# Altium schematic symbol library Regulator_Linear.SchLib: 1620 symbols (part 13 of 16)
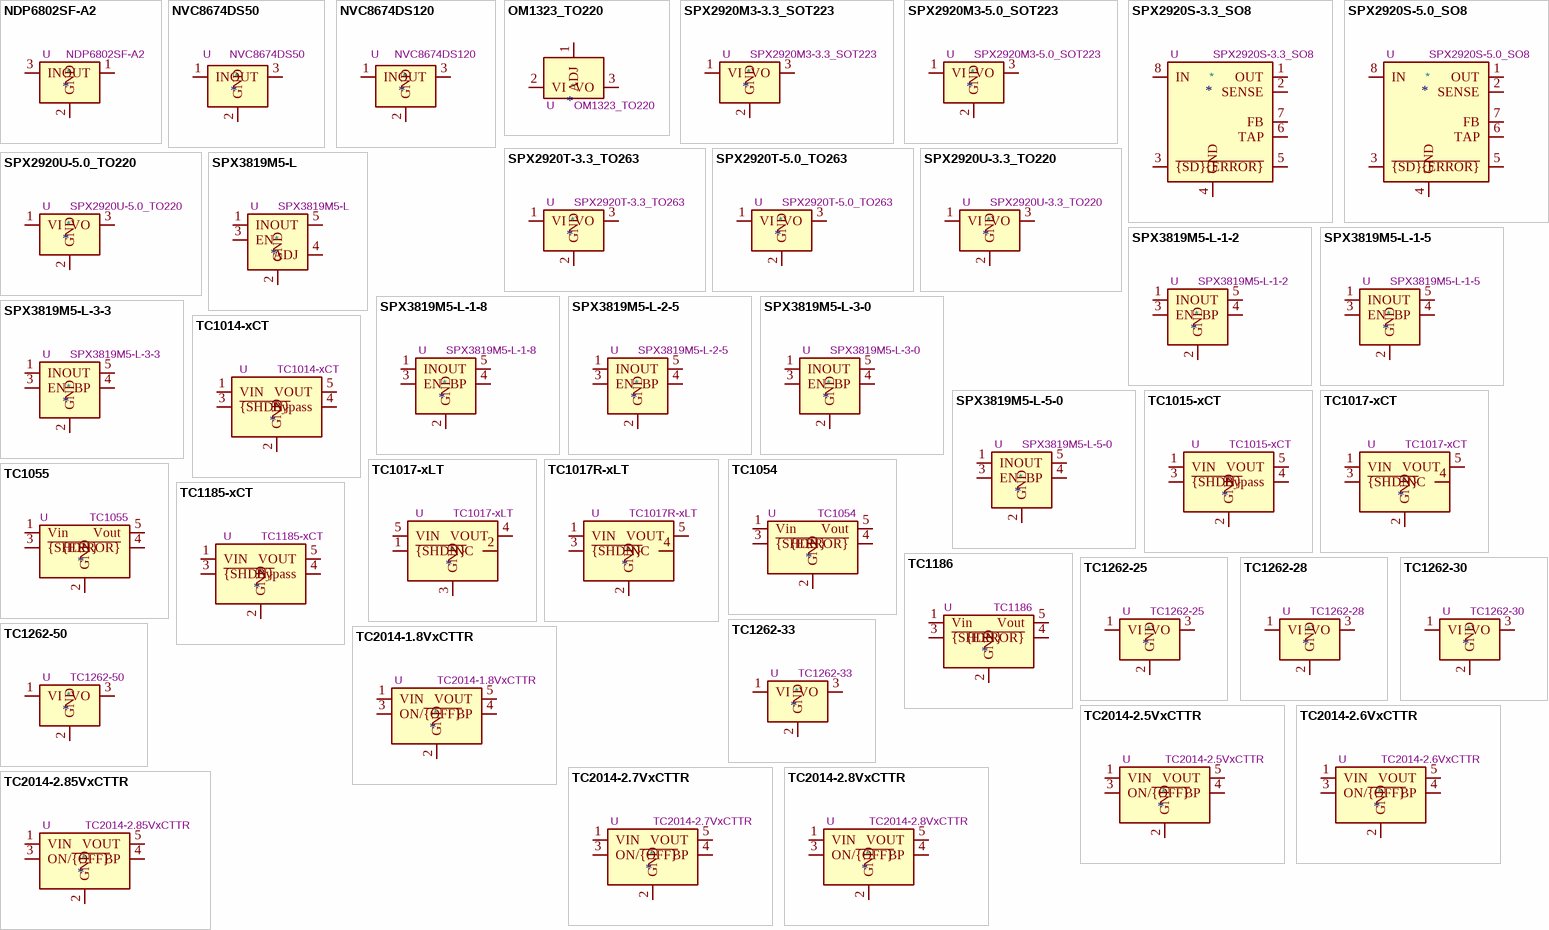
[diagram p52: symbols NDP6802SF-A2 to TC2014-2.85VxCTTR]

## TC1017-xLT
designator *  value TC1017-xLT  Reference: U
150mA, Tiny CMOS LDO With Shutdown, SC-70-5; ki_keywords: LDO Linear Voltage Regulator; ki_fp_filters: SOT*353*; Footprint: Package_TO_SOT_SMD:SOT-353_SC-70-5; Datasheet: http://ww1.microchip.com/downloads/en/DeviceDoc/21813F.pdf; Description_: 150mA, Tiny CMOS LDO With Shutdown, SC-70-5
pins: 1 ~{{SHDN}}, 2 NC, 3 GND, 4 VOUT, 5 VIN

## TC1017R-xLT
designator *  value TC1017R-xLT  Reference: U
150mA, Tiny CMOS LDO With Shutdown, SC-70-5; ki_keywords: LDO Linear Voltage Regulator; ki_fp_filters: SOT*353*; Footprint: Package_TO_SOT_SMD:SOT-353_SC-70-5; Datasheet: http://ww1.microchip.com/downloads/en/DeviceDoc/21813F.pdf; Description_: 150mA, Tiny CMOS LDO With Shutdown, SC-70-5
pins: 1 VIN, 2 GND, 3 ~{{SHDN}}, 4 NC, 5 VOUT

## TC1054
designator *  value TC1054  Reference: U
50mA Low Dropout Regulator with ERROR output in 5-Pin SOT-23 package; ki_keywords: LDO regulator voltage; ki_fp_filters: SOT?23*; Footprint: Package_TO_SOT_SMD:SOT-23-5; Datasheet: http://ww1.microchip.com/downloads/en/DeviceDoc/21350E.pdf; Description_: 50mA Low Dropout Regulator with ERROR output in 5-Pin SOT-23 package
pins: 1 Vin, 2 GND, 3 ~{{SHDN}}, 4 ~{{ERROR}}, 5 Vout

## TC1055
designator *  value TC1055  Reference: U
100mA Low Dropout Regulator with ERROR output in 5-Pin SOT-23 package; ki_keywords: LDO regulator voltage; ki_fp_filters: SOT?23*; Footprint: Package_TO_SOT_SMD:SOT-23-5; Datasheet: http://ww1.microchip.com/downloads/en/DeviceDoc/21350E.pdf; Description_: 100mA Low Dropout Regulator with ERROR output in 5-Pin SOT-23 package
pins: 1 Vin, 2 GND, 3 ~{{SHDN}}, 4 ~{{ERROR}}, 5 Vout

## TC1185-xCT
designator *  value TC1185-xCT  Reference: U
150 mA CMOS LDOs with Shutdown and Reference Bypass, SOT-23-5; ki_keywords: LDO Linear Voltage Regulator; ki_fp_filters: SOT?23*; Footprint: Package_TO_SOT_SMD:SOT-23-5; Datasheet: https://ww1.microchip.com/downloads/aemDocuments/documents/APID/ProductDocuments/DataSheets/21335e.pdf; Description_: 150 mA CMOS LDOs with Shutdown and Reference Bypass, SOT-23-5
pins: 1 VIN, 2 GND, 3 ~{{SHDN}}, 4 Bypass, 5 VOUT

## TC1186
designator *  value TC1186  Reference: U
150mA Low Dropout Regulator with ERROR output in 5-Pin SOT-23 package; ki_keywords: LDO regulator voltage; ki_fp_filters: SOT?23*; Footprint: Package_TO_SOT_SMD:SOT-23-5; Datasheet: http://ww1.microchip.com/downloads/en/DeviceDoc/21350E.pdf; Description_: 150mA Low Dropout Regulator with ERROR output in 5-Pin SOT-23 package
pins: 1 Vin, 2 GND, 3 ~{{SHDN}}, 4 ~{{ERROR}}, 5 Vout

## TC1262-25
designator *  value TC1262-25  Reference: U
500mA Low Dropout CMOS Voltage Regulator, Fixed Output 2.5V, TO-220/SOT-223/TO-263; ki_keywords: Voltage Regulator 2.5V 500mA Positive CMOS LDO Microchip; ki_fp_filters: SOT?223* TO?220* TO?263*; Datasheet: http://ww1.microchip.com/downloads/en/DeviceDoc/21373C.pdf; Description_: 500mA Low Dropout CMOS Voltage Regulator, Fixed Output 2.5V, TO-220/SOT-223/TO-263
pins: 1 VI, 2 GND, 3 VO

## TC1262-28
designator *  value TC1262-28  Reference: U
500mA Low Dropout CMOS Voltage Regulator, Fixed Output 2.8V, TO-220/SOT-223/TO-263; ki_keywords: Voltage Regulator 2.8V 500mA Positive CMOS LDO Microchip; ki_fp_filters: SOT?223* TO?220* TO?263*; Datasheet: http://ww1.microchip.com/downloads/en/DeviceDoc/21373C.pdf; Description_: 500mA Low Dropout CMOS Voltage Regulator, Fixed Output 2.8V, TO-220/SOT-223/TO-263
pins: 1 VI, 2 GND, 3 VO

## TC1262-30
designator *  value TC1262-30  Reference: U
500mA Low Dropout CMOS Voltage Regulator, Fixed Output 3.0V, TO-220/SOT-223/TO-263; ki_keywords: Voltage Regulator 3.0V 500mA Positive CMOS LDO Microchip; ki_fp_filters: SOT?223* TO?220* TO?263*; Datasheet: http://ww1.microchip.com/downloads/en/DeviceDoc/21373C.pdf; Description_: 500mA Low Dropout CMOS Voltage Regulator, Fixed Output 3.0V, TO-220/SOT-223/TO-263
pins: 1 VI, 2 GND, 3 VO

## TC1262-33
designator *  value TC1262-33  Reference: U
500mA Low Dropout CMOS Voltage Regulator, Fixed Output 3.3V, TO-220/SOT-223/TO-263; ki_keywords: Voltage Regulator 3.3V 500mA Positive CMOS LDO Microchip; ki_fp_filters: SOT?223* TO?220* TO?263*; Datasheet: http://ww1.microchip.com/downloads/en/DeviceDoc/21373C.pdf; Description_: 500mA Low Dropout CMOS Voltage Regulator, Fixed Output 3.3V, TO-220/SOT-223/TO-263
pins: 1 VI, 2 GND, 3 VO

## TC1262-50
designator *  value TC1262-50  Reference: U
500mA Low Dropout CMOS Voltage Regulator, Fixed Output 5.0V, TO-220/SOT-223/TO-263; ki_keywords: Voltage Regulator 5.0V 500mA Positive CMOS LDO Microchip; ki_fp_filters: SOT?223* TO?220* TO?263*; Datasheet: http://ww1.microchip.com/downloads/en/DeviceDoc/21373C.pdf; Description_: 500mA Low Dropout CMOS Voltage Regulator, Fixed Output 5.0V, TO-220/SOT-223/TO-263
pins: 1 VI, 2 GND, 3 VO

## TC2014-1.8VxCTTR
designator *  value TC2014-1.8VxCTTR  Reference: U
1.8V 50mA CMOS LDO with Shutdown and Vref Bypass, SOT-23-5; ki_keywords: low dropout 1.8V 50mA; ki_fp_filters: SOT?23*; Footprint: Package_TO_SOT_SMD:SOT-23-5; Datasheet: http://ww1.microchip.com/downloads/en/DeviceDoc/21662F.pdf; Description_: 1.8V 50mA CMOS LDO with Shutdown and Vref Bypass, SOT-23-5
pins: 1 VIN, 2 GND, 3 ON/~{{OFF}}, 4 BP, 5 VOUT

## TC2014-2.5VxCTTR
designator *  value TC2014-2.5VxCTTR  Reference: U
2.5V 50mA CMOS LDO with Shutdown and Vref Bypass, SOT-23-5; ki_keywords: low dropout 2.5V 50mA; ki_fp_filters: SOT?23*; Footprint: Package_TO_SOT_SMD:SOT-23-5; Datasheet: http://ww1.microchip.com/downloads/en/DeviceDoc/21662F.pdf; Description_: 2.5V 50mA CMOS LDO with Shutdown and Vref Bypass, SOT-23-5
pins: 1 VIN, 2 GND, 3 ON/~{{OFF}}, 4 BP, 5 VOUT

## TC2014-2.6VxCTTR
designator *  value TC2014-2.6VxCTTR  Reference: U
2.6V 50mA CMOS LDO with Shutdown and Vref Bypass, SOT-23-5; ki_keywords: low dropout 2.6V 50mA; ki_fp_filters: SOT?23*; Footprint: Package_TO_SOT_SMD:SOT-23-5; Datasheet: http://ww1.microchip.com/downloads/en/DeviceDoc/21662F.pdf; Description_: 2.6V 50mA CMOS LDO with Shutdown and Vref Bypass, SOT-23-5
pins: 1 VIN, 2 GND, 3 ON/~{{OFF}}, 4 BP, 5 VOUT

## TC2014-2.7VxCTTR
designator *  value TC2014-2.7VxCTTR  Reference: U
2.7V 50mA CMOS LDO with Shutdown and Vref Bypass, SOT-23-5; ki_keywords: low dropout 2.7V 50mA; ki_fp_filters: SOT?23*; Footprint: Package_TO_SOT_SMD:SOT-23-5; Datasheet: http://ww1.microchip.com/downloads/en/DeviceDoc/21662F.pdf; Description_: 2.7V 50mA CMOS LDO with Shutdown and Vref Bypass, SOT-23-5
pins: 1 VIN, 2 GND, 3 ON/~{{OFF}}, 4 BP, 5 VOUT

## TC2014-2.8VxCTTR
designator *  value TC2014-2.8VxCTTR  Reference: U
2.8V 50mA CMOS LDO with Shutdown and Vref Bypass, SOT-23-5; ki_keywords: low dropout 2.8V 50mA; ki_fp_filters: SOT?23*; Footprint: Package_TO_SOT_SMD:SOT-23-5; Datasheet: http://ww1.microchip.com/downloads/en/DeviceDoc/21662F.pdf; Description_: 2.8V 50mA CMOS LDO with Shutdown and Vref Bypass, SOT-23-5
pins: 1 VIN, 2 GND, 3 ON/~{{OFF}}, 4 BP, 5 VOUT

## TC2014-2.85VxCTTR
designator *  value TC2014-2.85VxCTTR  Reference: U
2.85V 50mA CMOS LDO with Shutdown and Vref Bypass, SOT-23-5; ki_keywords: low dropout 2.85V 50mA; ki_fp_filters: SOT?23*; Footprint: Package_TO_SOT_SMD:SOT-23-5; Datasheet: http://ww1.microchip.com/downloads/en/DeviceDoc/21662F.pdf; Description_: 2.85V 50mA CMOS LDO with Shutdown and Vref Bypass, SOT-23-5
pins: 1 VIN, 2 GND, 3 ON/~{{OFF}}, 4 BP, 5 VOUT

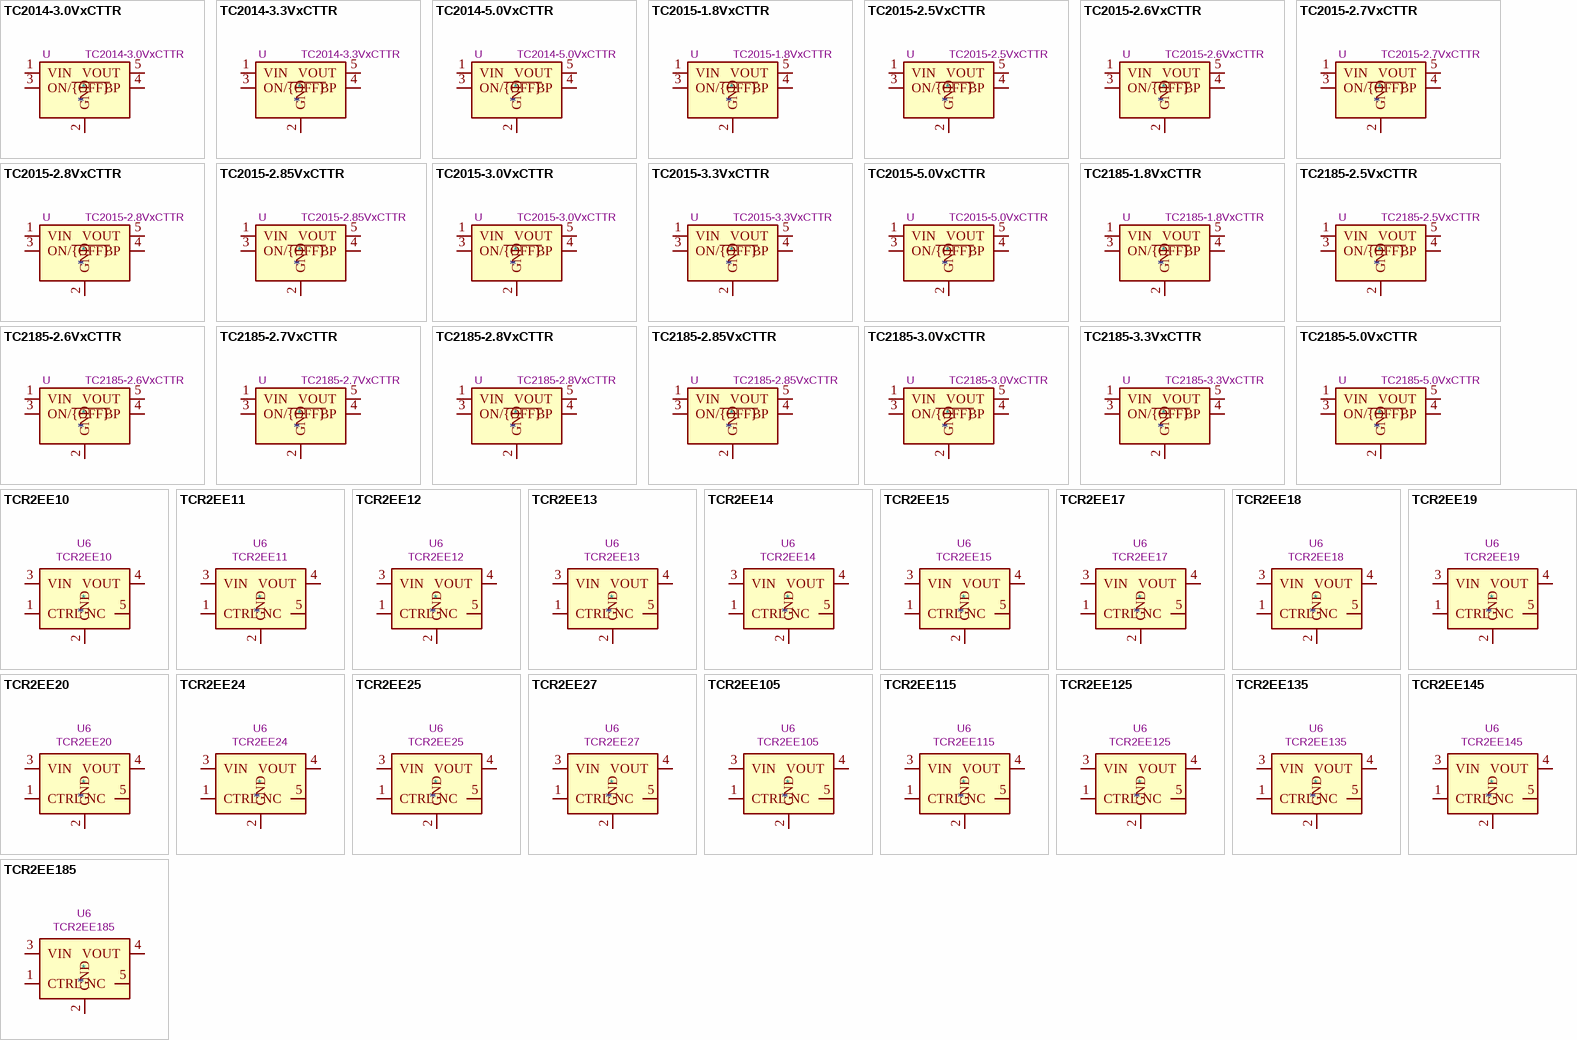
[diagram p32: symbols TC2014-3.0VxCTTR to TCR2EE185]

## TC2014-3.0VxCTTR
designator *  value TC2014-3.0VxCTTR  Reference: U
3.0V 50mA CMOS LDO with Shutdown and Vref Bypass, SOT-23-5; ki_keywords: low dropout 3.0V 50mA; ki_fp_filters: SOT?23*; Footprint: Package_TO_SOT_SMD:SOT-23-5; Datasheet: http://ww1.microchip.com/downloads/en/DeviceDoc/21662F.pdf; Description_: 3.0V 50mA CMOS LDO with Shutdown and Vref Bypass, SOT-23-5
pins: 1 VIN, 2 GND, 3 ON/~{{OFF}}, 4 BP, 5 VOUT

## TC2014-3.3VxCTTR
designator *  value TC2014-3.3VxCTTR  Reference: U
3.3V 50mA CMOS LDO with Shutdown and Vref Bypass, SOT-23-5; ki_keywords: low dropout 3.3V 50mA; ki_fp_filters: SOT?23*; Footprint: Package_TO_SOT_SMD:SOT-23-5; Datasheet: http://ww1.microchip.com/downloads/en/DeviceDoc/21662F.pdf; Description_: 3.3V 50mA CMOS LDO with Shutdown and Vref Bypass, SOT-23-5
pins: 1 VIN, 2 GND, 3 ON/~{{OFF}}, 4 BP, 5 VOUT

## TC2014-5.0VxCTTR
designator *  value TC2014-5.0VxCTTR  Reference: U
5.0V 50mA CMOS LDO with Shutdown and Vref Bypass, SOT-23-5; ki_keywords: low dropout 5.0V 50mA; ki_fp_filters: SOT?23*; Footprint: Package_TO_SOT_SMD:SOT-23-5; Datasheet: http://ww1.microchip.com/downloads/en/DeviceDoc/21662F.pdf; Description_: 5.0V 50mA CMOS LDO with Shutdown and Vref Bypass, SOT-23-5
pins: 1 VIN, 2 GND, 3 ON/~{{OFF}}, 4 BP, 5 VOUT

## TC2015-1.8VxCTTR
designator *  value TC2015-1.8VxCTTR  Reference: U
1.8V 100mA CMOS LDO with Shutdown and Vref Bypass, SOT-23-5; ki_keywords: low dropout 1.8V 100mA; ki_fp_filters: SOT?23*; Footprint: Package_TO_SOT_SMD:SOT-23-5; Datasheet: http://ww1.microchip.com/downloads/en/DeviceDoc/21662F.pdf; Description_: 1.8V 100mA CMOS LDO with Shutdown and Vref Bypass, SOT-23-5
pins: 1 VIN, 2 GND, 3 ON/~{{OFF}}, 4 BP, 5 VOUT

## TC2015-2.5VxCTTR
designator *  value TC2015-2.5VxCTTR  Reference: U
2.5V 100mA CMOS LDO with Shutdown and Vref Bypass, SOT-23-5; ki_keywords: low dropout 2.5V 100mA; ki_fp_filters: SOT?23*; Footprint: Package_TO_SOT_SMD:SOT-23-5; Datasheet: http://ww1.microchip.com/downloads/en/DeviceDoc/21662F.pdf; Description_: 2.5V 100mA CMOS LDO with Shutdown and Vref Bypass, SOT-23-5
pins: 1 VIN, 2 GND, 3 ON/~{{OFF}}, 4 BP, 5 VOUT

## TC2015-2.6VxCTTR
designator *  value TC2015-2.6VxCTTR  Reference: U
2.6V 100mA CMOS LDO with Shutdown and Vref Bypass, SOT-23-5; ki_keywords: low dropout 2.6V 100mA; ki_fp_filters: SOT?23*; Footprint: Package_TO_SOT_SMD:SOT-23-5; Datasheet: http://ww1.microchip.com/downloads/en/DeviceDoc/21662F.pdf; Description_: 2.6V 100mA CMOS LDO with Shutdown and Vref Bypass, SOT-23-5
pins: 1 VIN, 2 GND, 3 ON/~{{OFF}}, 4 BP, 5 VOUT

## TC2015-2.7VxCTTR
designator *  value TC2015-2.7VxCTTR  Reference: U
2.7V 100mA CMOS LDO with Shutdown and Vref Bypass, SOT-23-5; ki_keywords: low dropout 2.7V 100mA; ki_fp_filters: SOT?23*; Footprint: Package_TO_SOT_SMD:SOT-23-5; Datasheet: http://ww1.microchip.com/downloads/en/DeviceDoc/21662F.pdf; Description_: 2.7V 100mA CMOS LDO with Shutdown and Vref Bypass, SOT-23-5
pins: 1 VIN, 2 GND, 3 ON/~{{OFF}}, 4 BP, 5 VOUT

## TC2015-2.8VxCTTR
designator *  value TC2015-2.8VxCTTR  Reference: U
2.8V 100mA CMOS LDO with Shutdown and Vref Bypass, SOT-23-5; ki_keywords: low dropout 2.8V 100mA; ki_fp_filters: SOT?23*; Footprint: Package_TO_SOT_SMD:SOT-23-5; Datasheet: http://ww1.microchip.com/downloads/en/DeviceDoc/21662F.pdf; Description_: 2.8V 100mA CMOS LDO with Shutdown and Vref Bypass, SOT-23-5
pins: 1 VIN, 2 GND, 3 ON/~{{OFF}}, 4 BP, 5 VOUT

## TC2015-2.85VxCTTR
designator *  value TC2015-2.85VxCTTR  Reference: U
2.85V 100mA CMOS LDO with Shutdown and Vref Bypass, SOT-23-5; ki_keywords: low dropout 2.85V 100mA; ki_fp_filters: SOT?23*; Footprint: Package_TO_SOT_SMD:SOT-23-5; Datasheet: http://ww1.microchip.com/downloads/en/DeviceDoc/21662F.pdf; Description_: 2.85V 100mA CMOS LDO with Shutdown and Vref Bypass, SOT-23-5
pins: 1 VIN, 2 GND, 3 ON/~{{OFF}}, 4 BP, 5 VOUT

## TC2015-3.0VxCTTR
designator *  value TC2015-3.0VxCTTR  Reference: U
3.0V 100mA CMOS LDO with Shutdown and Vref Bypass, SOT-23-5; ki_keywords: low dropout 3.0V 100mA; ki_fp_filters: SOT?23*; Footprint: Package_TO_SOT_SMD:SOT-23-5; Datasheet: http://ww1.microchip.com/downloads/en/DeviceDoc/21662F.pdf; Description_: 3.0V 100mA CMOS LDO with Shutdown and Vref Bypass, SOT-23-5
pins: 1 VIN, 2 GND, 3 ON/~{{OFF}}, 4 BP, 5 VOUT

## TC2015-3.3VxCTTR
designator *  value TC2015-3.3VxCTTR  Reference: U
3.3V 100mA CMOS LDO with Shutdown and Vref Bypass, SOT-23-5; ki_keywords: low dropout 3.3V 100mA; ki_fp_filters: SOT?23*; Footprint: Package_TO_SOT_SMD:SOT-23-5; Datasheet: http://ww1.microchip.com/downloads/en/DeviceDoc/21662F.pdf; Description_: 3.3V 100mA CMOS LDO with Shutdown and Vref Bypass, SOT-23-5
pins: 1 VIN, 2 GND, 3 ON/~{{OFF}}, 4 BP, 5 VOUT

## TC2015-5.0VxCTTR
designator *  value TC2015-5.0VxCTTR  Reference: U
5.0V 100mA CMOS LDO with Shutdown and Vref Bypass, SOT-23-5; ki_keywords: low dropout 5.0V 100mA; ki_fp_filters: SOT?23*; Footprint: Package_TO_SOT_SMD:SOT-23-5; Datasheet: http://ww1.microchip.com/downloads/en/DeviceDoc/21662F.pdf; Description_: 5.0V 100mA CMOS LDO with Shutdown and Vref Bypass, SOT-23-5
pins: 1 VIN, 2 GND, 3 ON/~{{OFF}}, 4 BP, 5 VOUT

## TC2185-1.8VxCTTR
designator *  value TC2185-1.8VxCTTR  Reference: U
1.8V 150mA CMOS LDO with Shutdown and Vref Bypass, SOT-23-5; ki_keywords: low dropout 1.8V 150mA; ki_fp_filters: SOT?23*; Footprint: Package_TO_SOT_SMD:SOT-23-5; Datasheet: http://ww1.microchip.com/downloads/en/DeviceDoc/21662F.pdf; Description_: 1.8V 150mA CMOS LDO with Shutdown and Vref Bypass, SOT-23-5
pins: 1 VIN, 2 GND, 3 ON/~{{OFF}}, 4 BP, 5 VOUT

## TC2185-2.5VxCTTR
designator *  value TC2185-2.5VxCTTR  Reference: U
2.5V 150mA CMOS LDO with Shutdown and Vref Bypass, SOT-23-5; ki_keywords: low dropout 2.5V 150mA; ki_fp_filters: SOT?23*; Footprint: Package_TO_SOT_SMD:SOT-23-5; Datasheet: http://ww1.microchip.com/downloads/en/DeviceDoc/21662F.pdf; Description_: 2.5V 150mA CMOS LDO with Shutdown and Vref Bypass, SOT-23-5
pins: 1 VIN, 2 GND, 3 ON/~{{OFF}}, 4 BP, 5 VOUT

## TC2185-2.6VxCTTR
designator *  value TC2185-2.6VxCTTR  Reference: U
2.6V 150mA CMOS LDO with Shutdown and Vref Bypass, SOT-23-5; ki_keywords: low dropout 2.6V 150mA; ki_fp_filters: SOT?23*; Footprint: Package_TO_SOT_SMD:SOT-23-5; Datasheet: http://ww1.microchip.com/downloads/en/DeviceDoc/21662F.pdf; Description_: 2.6V 150mA CMOS LDO with Shutdown and Vref Bypass, SOT-23-5
pins: 1 VIN, 2 GND, 3 ON/~{{OFF}}, 4 BP, 5 VOUT

## TC2185-2.7VxCTTR
designator *  value TC2185-2.7VxCTTR  Reference: U
2.7V 150mA CMOS LDO with Shutdown and Vref Bypass, SOT-23-5; ki_keywords: low dropout 2.7V 150mA; ki_fp_filters: SOT?23*; Footprint: Package_TO_SOT_SMD:SOT-23-5; Datasheet: http://ww1.microchip.com/downloads/en/DeviceDoc/21662F.pdf; Description_: 2.7V 150mA CMOS LDO with Shutdown and Vref Bypass, SOT-23-5
pins: 1 VIN, 2 GND, 3 ON/~{{OFF}}, 4 BP, 5 VOUT

## TC2185-2.8VxCTTR
designator *  value TC2185-2.8VxCTTR  Reference: U
2.8V 150mA CMOS LDO with Shutdown and Vref Bypass, SOT-23-5; ki_keywords: low dropout 2.8V 150mA; ki_fp_filters: SOT?23*; Footprint: Package_TO_SOT_SMD:SOT-23-5; Datasheet: http://ww1.microchip.com/downloads/en/DeviceDoc/21662F.pdf; Description_: 2.8V 150mA CMOS LDO with Shutdown and Vref Bypass, SOT-23-5
pins: 1 VIN, 2 GND, 3 ON/~{{OFF}}, 4 BP, 5 VOUT

## TC2185-2.85VxCTTR
designator *  value TC2185-2.85VxCTTR  Reference: U
2.85V 150mA CMOS LDO with Shutdown and Vref Bypass, SOT-23-5; ki_keywords: low dropout 2.85V 150mA; ki_fp_filters: SOT?23*; Footprint: Package_TO_SOT_SMD:SOT-23-5; Datasheet: http://ww1.microchip.com/downloads/en/DeviceDoc/21662F.pdf; Description_: 2.85V 150mA CMOS LDO with Shutdown and Vref Bypass, SOT-23-5
pins: 1 VIN, 2 GND, 3 ON/~{{OFF}}, 4 BP, 5 VOUT

## TC2185-3.0VxCTTR
designator *  value TC2185-3.0VxCTTR  Reference: U
3.0V 50mA CMOS LDO with Shutdown and Vref Bypass, SOT-23-5; ki_keywords: low dropout 3.0V 150mA; ki_fp_filters: SOT?23*; Footprint: Package_TO_SOT_SMD:SOT-23-5; Datasheet: http://ww1.microchip.com/downloads/en/DeviceDoc/21662F.pdf; Description_: 3.0V 50mA CMOS LDO with Shutdown and Vref Bypass, SOT-23-5
pins: 1 VIN, 2 GND, 3 ON/~{{OFF}}, 4 BP, 5 VOUT

## TC2185-3.3VxCTTR
designator *  value TC2185-3.3VxCTTR  Reference: U
3.3V 150mA CMOS LDO with Shutdown and Vref Bypass, SOT-23-5; ki_keywords: low dropout 3.3V 150mA; ki_fp_filters: SOT?23*; Footprint: Package_TO_SOT_SMD:SOT-23-5; Datasheet: http://ww1.microchip.com/downloads/en/DeviceDoc/21662F.pdf; Description_: 3.3V 150mA CMOS LDO with Shutdown and Vref Bypass, SOT-23-5
pins: 1 VIN, 2 GND, 3 ON/~{{OFF}}, 4 BP, 5 VOUT

## TC2185-5.0VxCTTR
designator *  value TC2185-5.0VxCTTR  Reference: U
5.0V 150mA CMOS LDO with Shutdown and Vref Bypass, SOT-23-5; ki_keywords: low dropout 5.0V 150mA; ki_fp_filters: SOT?23*; Footprint: Package_TO_SOT_SMD:SOT-23-5; Datasheet: http://ww1.microchip.com/downloads/en/DeviceDoc/21662F.pdf; Description_: 5.0V 150mA CMOS LDO with Shutdown and Vref Bypass, SOT-23-5
pins: 1 VIN, 2 GND, 3 ON/~{{OFF}}, 4 BP, 5 VOUT

## TCR2EE10
designator *  value TCR2EE10  Reference: U6
200mA Low-dropout Voltage Regulator, Vout 1.0V, Vin up to 5.5V, SOT-553; ki_keywords: TOSHIBA LDO voltage regulator; ki_fp_filters: SOT?553*; Footprint: Package_TO_SOT_SMD:SOT-553; Datasheet: https://toshiba.semicon-storage.com/info/docget.jsp?did=13794&prodName=TCR2EF45; Description_: 200mA Low-dropout Voltage Regulator, Vout 1.0V, Vin up to 5.5V, SOT-553
pins: 1 CTRL, 2 GND, 3 VIN, 4 VOUT, 5 NC

## TCR2EE11
designator *  value TCR2EE11  Reference: U6
200mA Low-dropout Voltage Regulator, Vout 1.1V, Vin up to 5.5V, SOT-553; ki_keywords: TOSHIBA LDO voltage regulator; ki_fp_filters: SOT?553*; Footprint: Package_TO_SOT_SMD:SOT-553; Datasheet: https://toshiba.semicon-storage.com/info/docget.jsp?did=13794&prodName=TCR2EF45; Description_: 200mA Low-dropout Voltage Regulator, Vout 1.1V, Vin up to 5.5V, SOT-553
pins: 1 CTRL, 2 GND, 3 VIN, 4 VOUT, 5 NC

## TCR2EE12
designator *  value TCR2EE12  Reference: U6
200mA Low-dropout Voltage Regulator, Vout 1.2V, Vin up to 5.5V, SOT-553; ki_keywords: TOSHIBA LDO voltage regulator; ki_fp_filters: SOT?553*; Footprint: Package_TO_SOT_SMD:SOT-553; Datasheet: https://toshiba.semicon-storage.com/info/docget.jsp?did=13794&prodName=TCR2EF45; Description_: 200mA Low-dropout Voltage Regulator, Vout 1.2V, Vin up to 5.5V, SOT-553
pins: 1 CTRL, 2 GND, 3 VIN, 4 VOUT, 5 NC

## TCR2EE13
designator *  value TCR2EE13  Reference: U6
200mA Low-dropout Voltage Regulator, Vout 1.3V, Vin up to 5.5V, SOT-553; ki_keywords: TOSHIBA LDO voltage regulator; ki_fp_filters: SOT?553*; Footprint: Package_TO_SOT_SMD:SOT-553; Datasheet: https://toshiba.semicon-storage.com/info/docget.jsp?did=13794&prodName=TCR2EF45; Description_: 200mA Low-dropout Voltage Regulator, Vout 1.3V, Vin up to 5.5V, SOT-553
pins: 1 CTRL, 2 GND, 3 VIN, 4 VOUT, 5 NC

## TCR2EE14
designator *  value TCR2EE14  Reference: U6
200mA Low-dropout Voltage Regulator, Vout 1.4V, Vin up to 5.5V, SOT-553; ki_keywords: TOSHIBA LDO voltage regulator; ki_fp_filters: SOT?553*; Footprint: Package_TO_SOT_SMD:SOT-553; Datasheet: https://toshiba.semicon-storage.com/info/docget.jsp?did=13794&prodName=TCR2EF45; Description_: 200mA Low-dropout Voltage Regulator, Vout 1.4V, Vin up to 5.5V, SOT-553
pins: 1 CTRL, 2 GND, 3 VIN, 4 VOUT, 5 NC

## TCR2EE15
designator *  value TCR2EE15  Reference: U6
200mA Low-dropout Voltage Regulator, Vout 1.5V, Vin up to 5.5V, SOT-553; ki_keywords: TOSHIBA LDO voltage regulator; ki_fp_filters: SOT?553*; Footprint: Package_TO_SOT_SMD:SOT-553; Datasheet: https://toshiba.semicon-storage.com/info/docget.jsp?did=13794&prodName=TCR2EF45; Description_: 200mA Low-dropout Voltage Regulator, Vout 1.5V, Vin up to 5.5V, SOT-553
pins: 1 CTRL, 2 GND, 3 VIN, 4 VOUT, 5 NC

## TCR2EE17
designator *  value TCR2EE17  Reference: U6
200mA Low-dropout Voltage Regulator, Vout 1.7V, Vin up to 5.5V, SOT-553; ki_keywords: TOSHIBA LDO voltage regulator; ki_fp_filters: SOT?553*; Footprint: Package_TO_SOT_SMD:SOT-553; Datasheet: https://toshiba.semicon-storage.com/info/docget.jsp?did=13794&prodName=TCR2EF45; Description_: 200mA Low-dropout Voltage Regulator, Vout 1.7V, Vin up to 5.5V, SOT-553
pins: 1 CTRL, 2 GND, 3 VIN, 4 VOUT, 5 NC

## TCR2EE18
designator *  value TCR2EE18  Reference: U6
200mA Low-dropout Voltage Regulator, Vout 1.8V, Vin up to 5.5V, SOT-553; ki_keywords: TOSHIBA LDO voltage regulator; ki_fp_filters: SOT?553*; Footprint: Package_TO_SOT_SMD:SOT-553; Datasheet: https://toshiba.semicon-storage.com/info/docget.jsp?did=13794&prodName=TCR2EF45; Description_: 200mA Low-dropout Voltage Regulator, Vout 1.8V, Vin up to 5.5V, SOT-553
pins: 1 CTRL, 2 GND, 3 VIN, 4 VOUT, 5 NC

## TCR2EE19
designator *  value TCR2EE19  Reference: U6
200mA Low-dropout Voltage Regulator, Vout 1.9V, Vin up to 5.5V, SOT-553; ki_keywords: TOSHIBA LDO voltage regulator; ki_fp_filters: SOT?553*; Footprint: Package_TO_SOT_SMD:SOT-553; Datasheet: https://toshiba.semicon-storage.com/info/docget.jsp?did=13794&prodName=TCR2EF45; Description_: 200mA Low-dropout Voltage Regulator, Vout 1.9V, Vin up to 5.5V, SOT-553
pins: 1 CTRL, 2 GND, 3 VIN, 4 VOUT, 5 NC

## TCR2EE20
designator *  value TCR2EE20  Reference: U6
200mA Low-dropout Voltage Regulator, Vout 2.0V, Vin up to 5.5V, SOT-553; ki_keywords: TOSHIBA LDO voltage regulator; ki_fp_filters: SOT?553*; Footprint: Package_TO_SOT_SMD:SOT-553; Datasheet: https://toshiba.semicon-storage.com/info/docget.jsp?did=13794&prodName=TCR2EF45; Description_: 200mA Low-dropout Voltage Regulator, Vout 2.0V, Vin up to 5.5V, SOT-553
pins: 1 CTRL, 2 GND, 3 VIN, 4 VOUT, 5 NC

## TCR2EE24
designator *  value TCR2EE24  Reference: U6
200mA Low-dropout Voltage Regulator, Vout 2.4V, Vin up to 5.5V, SOT-553; ki_keywords: TOSHIBA LDO voltage regulator; ki_fp_filters: SOT?553*; Footprint: Package_TO_SOT_SMD:SOT-553; Datasheet: https://toshiba.semicon-storage.com/info/docget.jsp?did=13794&prodName=TCR2EF45; Description_: 200mA Low-dropout Voltage Regulator, Vout 2.4V, Vin up to 5.5V, SOT-553
pins: 1 CTRL, 2 GND, 3 VIN, 4 VOUT, 5 NC

## TCR2EE25
designator *  value TCR2EE25  Reference: U6
200mA Low-dropout Voltage Regulator, Vout 2.5V, Vin up to 5.5V, SOT-553; ki_keywords: TOSHIBA LDO voltage regulator; ki_fp_filters: SOT?553*; Footprint: Package_TO_SOT_SMD:SOT-553; Datasheet: https://toshiba.semicon-storage.com/info/docget.jsp?did=13794&prodName=TCR2EF45; Description_: 200mA Low-dropout Voltage Regulator, Vout 2.5V, Vin up to 5.5V, SOT-553
pins: 1 CTRL, 2 GND, 3 VIN, 4 VOUT, 5 NC

## TCR2EE27
designator *  value TCR2EE27  Reference: U6
200mA Low-dropout Voltage Regulator, Vout 2.7V, Vin up to 5.5V, SOT-553; ki_keywords: TOSHIBA LDO voltage regulator; ki_fp_filters: SOT?553*; Footprint: Package_TO_SOT_SMD:SOT-553; Datasheet: https://toshiba.semicon-storage.com/info/docget.jsp?did=13794&prodName=TCR2EF45; Description_: 200mA Low-dropout Voltage Regulator, Vout 2.7V, Vin up to 5.5V, SOT-553
pins: 1 CTRL, 2 GND, 3 VIN, 4 VOUT, 5 NC

## TCR2EE105
designator *  value TCR2EE105  Reference: U6
200mA Low-dropout Voltage Regulator, Vout 1.05V, Vin up to 5.5V, SOT-553; ki_keywords: TOSHIBA LDO voltage regulator; ki_fp_filters: SOT?553*; Footprint: Package_TO_SOT_SMD:SOT-553; Datasheet: https://toshiba.semicon-storage.com/info/docget.jsp?did=13794&prodName=TCR2EF45; Description_: 200mA Low-dropout Voltage Regulator, Vout 1.05V, Vin up to 5.5V, SOT-553
pins: 1 CTRL, 2 GND, 3 VIN, 4 VOUT, 5 NC

## TCR2EE115
designator *  value TCR2EE115  Reference: U6
200mA Low-dropout Voltage Regulator, Vout 1.15V, Vin up to 5.5V, SOT-553; ki_keywords: TOSHIBA LDO voltage regulator; ki_fp_filters: SOT?553*; Footprint: Package_TO_SOT_SMD:SOT-553; Datasheet: https://toshiba.semicon-storage.com/info/docget.jsp?did=13794&prodName=TCR2EF45; Description_: 200mA Low-dropout Voltage Regulator, Vout 1.15V, Vin up to 5.5V, SOT-553
pins: 1 CTRL, 2 GND, 3 VIN, 4 VOUT, 5 NC

## TCR2EE125
designator *  value TCR2EE125  Reference: U6
200mA Low-dropout Voltage Regulator, Vout 1.25V, Vin up to 5.5V, SOT-553; ki_keywords: TOSHIBA LDO voltage regulator; ki_fp_filters: SOT?553*; Footprint: Package_TO_SOT_SMD:SOT-553; Datasheet: https://toshiba.semicon-storage.com/info/docget.jsp?did=13794&prodName=TCR2EF45; Description_: 200mA Low-dropout Voltage Regulator, Vout 1.25V, Vin up to 5.5V, SOT-553
pins: 1 CTRL, 2 GND, 3 VIN, 4 VOUT, 5 NC

## TCR2EE135
designator *  value TCR2EE135  Reference: U6
200mA Low-dropout Voltage Regulator, Vout 1.35V, Vin up to 5.5V, SOT-553; ki_keywords: TOSHIBA LDO voltage regulator; ki_fp_filters: SOT?553*; Footprint: Package_TO_SOT_SMD:SOT-553; Datasheet: https://toshiba.semicon-storage.com/info/docget.jsp?did=13794&prodName=TCR2EF45; Description_: 200mA Low-dropout Voltage Regulator, Vout 1.35V, Vin up to 5.5V, SOT-553
pins: 1 CTRL, 2 GND, 3 VIN, 4 VOUT, 5 NC

## TCR2EE145
designator *  value TCR2EE145  Reference: U6
200mA Low-dropout Voltage Regulator, Vout 1.45V, Vin up to 5.5V, SOT-553; ki_keywords: TOSHIBA LDO voltage regulator; ki_fp_filters: SOT?553*; Footprint: Package_TO_SOT_SMD:SOT-553; Datasheet: https://toshiba.semicon-storage.com/info/docget.jsp?did=13794&prodName=TCR2EF45; Description_: 200mA Low-dropout Voltage Regulator, Vout 1.45V, Vin up to 5.5V, SOT-553
pins: 1 CTRL, 2 GND, 3 VIN, 4 VOUT, 5 NC

## TCR2EE185
designator *  value TCR2EE185  Reference: U6
200mA Low-dropout Voltage Regulator, Vout 1.85V, Vin up to 5.5V, SOT-553; ki_keywords: TOSHIBA LDO voltage regulator; ki_fp_filters: SOT?553*; Footprint: Package_TO_SOT_SMD:SOT-553; Datasheet: https://toshiba.semicon-storage.com/info/docget.jsp?did=13794&prodName=TCR2EF45; Description_: 200mA Low-dropout Voltage Regulator, Vout 1.85V, Vin up to 5.5V, SOT-553
pins: 1 CTRL, 2 GND, 3 VIN, 4 VOUT, 5 NC

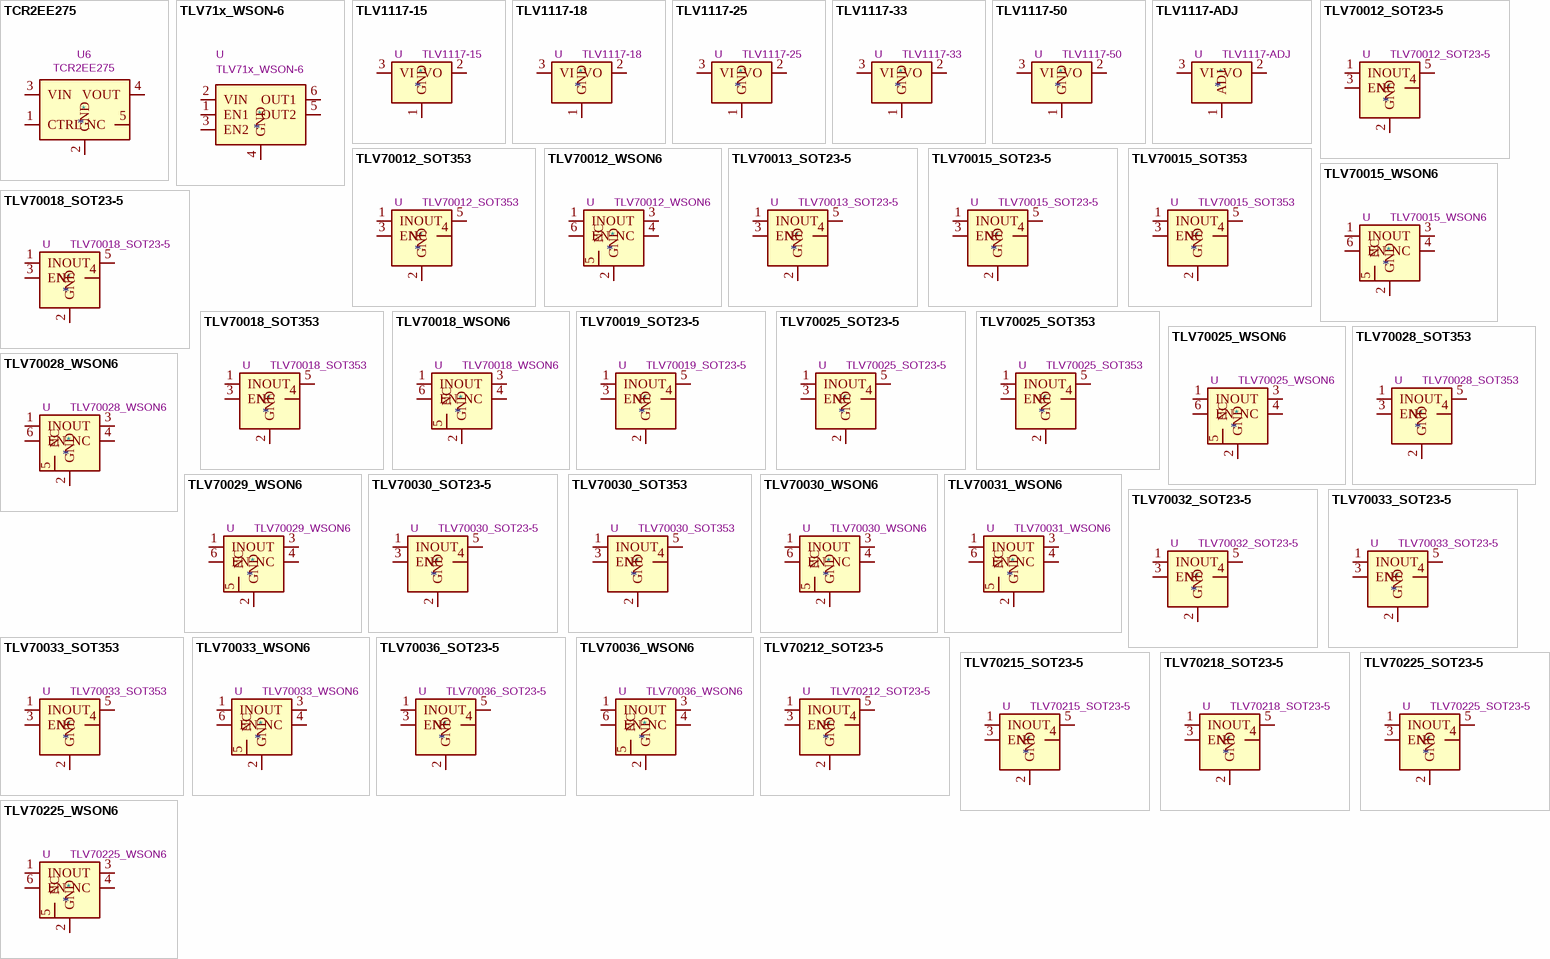
[diagram p33: symbols TCR2EE275 to TLV70225_WSON6]

## TCR2EE275
designator *  value TCR2EE275  Reference: U6
200mA Low-dropout Voltage Regulator, Vout 2.75V, Vin up to 5.5V, SOT-553; ki_keywords: TOSHIBA LDO voltage regulator; ki_fp_filters: SOT?553*; Footprint: Package_TO_SOT_SMD:SOT-553; Datasheet: https://toshiba.semicon-storage.com/info/docget.jsp?did=13794&prodName=TCR2EF45; Description_: 200mA Low-dropout Voltage Regulator, Vout 2.75V, Vin up to 5.5V, SOT-553
pins: 1 CTRL, 2 GND, 3 VIN, 4 VOUT, 5 NC

## TLV71x_WSON-6
designator *  value TLV71x_WSON-6  Reference: U
Dual, 200mA, Low-Iq Low-Dropout Regulator for Portable Devices, SON-6; ki_keywords: dual LDO; ki_fp_filters: *WSON*1.5x1.5mm*P0.5mm*; Footprint: Package_SON:WSON-6_1.5x1.5mm_P0.5mm; Datasheet: https://www.ti.com/lit/ds/symlink/tlv711.pdf; Description_: Dual, 200mA, Low-Iq Low-Dropout Regulator for Portable Devices, SON-6
pins: 1 EN1, 2 VIN, 3 EN2, 4 GND, 5 OUT2, 6 OUT1

## TLV1117-15
designator *  value TLV1117-15  Reference: U
800mA Low-Dropout Linear Regulator, 1.5V fixed output, TO-220/TO-252/TO-263/SOT-223; ki_keywords: linear regulator ldo fixed positive; ki_fp_filters: SOT?223* TO?263* TO?252* TO?220*; Datasheet: http://www.ti.com/lit/ds/symlink/tlv1117.pdf; Description_: 800mA Low-Dropout Linear Regulator, 1.5V fixed output, TO-220/TO-252/TO-263/SOT-223
pins: 1 GND, 2 VO, 3 VI

## TLV1117-18
designator *  value TLV1117-18  Reference: U
800mA Low-Dropout Linear Regulator, 1.8V fixed output, TO-220/TO-252/TO-263/SOT-223; ki_keywords: linear regulator ldo fixed positive; ki_fp_filters: SOT?223* TO?263* TO?252* TO?220*; Datasheet: http://www.ti.com/lit/ds/symlink/tlv1117.pdf; Description_: 800mA Low-Dropout Linear Regulator, 1.8V fixed output, TO-220/TO-252/TO-263/SOT-223
pins: 1 GND, 2 VO, 3 VI

## TLV1117-25
designator *  value TLV1117-25  Reference: U
800mA Low-Dropout Linear Regulator, 2.5V fixed output, TO-220/TO-252/TO-263/SOT-223; ki_keywords: linear regulator ldo fixed positive; ki_fp_filters: SOT?223* TO?263* TO?252* TO?220*; Datasheet: http://www.ti.com/lit/ds/symlink/tlv1117.pdf; Description_: 800mA Low-Dropout Linear Regulator, 2.5V fixed output, TO-220/TO-252/TO-263/SOT-223
pins: 1 GND, 2 VO, 3 VI

## TLV1117-33
designator *  value TLV1117-33  Reference: U
800mA Low-Dropout Linear Regulator, 3.3V fixed output, TO-220/TO-252/TO-263/SOT-223; ki_keywords: linear regulator ldo fixed positive; ki_fp_filters: SOT?223* TO?263* TO?252* TO?220*; Datasheet: http://www.ti.com/lit/ds/symlink/tlv1117.pdf; Description_: 800mA Low-Dropout Linear Regulator, 3.3V fixed output, TO-220/TO-252/TO-263/SOT-223
pins: 1 GND, 2 VO, 3 VI

## TLV1117-50
designator *  value TLV1117-50  Reference: U
800mA Low-Dropout Linear Regulator, 5.0V fixed output, TO-220/TO-252/TO-263/SOT-223; ki_keywords: linear regulator ldo fixed positive; ki_fp_filters: SOT?223* TO?263* TO?252* TO?220*; Datasheet: http://www.ti.com/lit/ds/symlink/tlv1117.pdf; Description_: 800mA Low-Dropout Linear Regulator, 5.0V fixed output, TO-220/TO-252/TO-263/SOT-223
pins: 1 GND, 2 VO, 3 VI

## TLV1117-ADJ
designator *  value TLV1117-ADJ  Reference: U
800mA Low-Dropout Linear Regulator, adjustable output, TO-220/TO-252/TO-263/SOT-223; ki_keywords: linear regulator ldo adjustable positive; ki_fp_filters: SOT?223* TO?263* TO?252* TO?220*; Datasheet: http://www.ti.com/lit/ds/symlink/tlv1117.pdf; Description_: 800mA Low-Dropout Linear Regulator, adjustable output, TO-220/TO-252/TO-263/SOT-223
pins: 1 ADJ, 2 VO, 3 VI

## TLV70012_SOT23-5
designator *  value TLV70012_SOT23-5  Reference: U
200mA Low Dropout Voltage Regulator, Fixed Output 1.2V, SOT-23-5; ki_keywords: 200mA LDO Regulator Fixed Positive; ki_fp_filters: SOT?23*; Footprint: Package_TO_SOT_SMD:SOT-23-5; Datasheet: http://www.ti.com/lit/ds/symlink/tlv700.pdf; Description_: 200mA Low Dropout Voltage Regulator, Fixed Output 1.2V, SOT-23-5
pins: 1 IN, 2 GND, 3 EN, 4 NC, 5 OUT

## TLV70012_SOT353
designator *  value TLV70012_SOT353  Reference: U
200mA Low Dropout Voltage Regulator, Fixed Output 1.2V, SOT-23-5/SC-70-5/SOT-353; ki_keywords: 200mA LDO Regulator Fixed Positive; ki_fp_filters: SOT*353*; Footprint: Package_TO_SOT_SMD:SOT-353_SC-70-5; Datasheet: http://www.ti.com/lit/ds/symlink/tlv700.pdf; Description_: 200mA Low Dropout Voltage Regulator, Fixed Output 1.2V, SOT-23-5/SC-70-5/SOT-353
pins: 1 IN, 2 GND, 3 EN, 4 NC, 5 OUT

## TLV70012_WSON6
designator *  value TLV70012_WSON6  Reference: U
200mA Low Dropout Voltage Regulator, Fixed Output 1.2V, WSON6; ki_keywords: 200mA LDO Regulator Fixed Positive; ki_fp_filters: WSON*; Footprint: Package_SON:WSON-6_1.5x1.5mm_P0.5mm; Datasheet: http://www.ti.com/lit/ds/symlink/tlv700.pdf; Description_: 200mA Low Dropout Voltage Regulator, Fixed Output 1.2V, WSON6
pins: 1 IN, 2 GND, 3 OUT, 4 NC, 5 NC, 6 EN

## TLV70013_SOT23-5
designator *  value TLV70013_SOT23-5  Reference: U
200mA Low Dropout Voltage Regulator, Fixed Output 1.3V, SOT-23-5; ki_keywords: 200mA LDO Regulator Fixed Positive; ki_fp_filters: SOT?23*; Footprint: Package_TO_SOT_SMD:SOT-23-5; Datasheet: http://www.ti.com/lit/ds/symlink/tlv700.pdf; Description_: 200mA Low Dropout Voltage Regulator, Fixed Output 1.3V, SOT-23-5
pins: 1 IN, 2 GND, 3 EN, 4 NC, 5 OUT

## TLV70015_SOT23-5
designator *  value TLV70015_SOT23-5  Reference: U
200mA Low Dropout Voltage Regulator, Fixed Output 1.5V, SOT-23-5; ki_keywords: 200mA LDO Regulator Fixed Positive; ki_fp_filters: SOT?23*; Footprint: Package_TO_SOT_SMD:SOT-23-5; Datasheet: http://www.ti.com/lit/ds/symlink/tlv700.pdf; Description_: 200mA Low Dropout Voltage Regulator, Fixed Output 1.5V, SOT-23-5
pins: 1 IN, 2 GND, 3 EN, 4 NC, 5 OUT

## TLV70015_SOT353
designator *  value TLV70015_SOT353  Reference: U
200mA Low Dropout Voltage Regulator, Fixed Output 1.5V, SOT-23-5/SC-70-5/SOT-353; ki_keywords: 200mA LDO Regulator Fixed Positive; ki_fp_filters: SOT*353*; Footprint: Package_TO_SOT_SMD:SOT-353_SC-70-5; Datasheet: http://www.ti.com/lit/ds/symlink/tlv700.pdf; Description_: 200mA Low Dropout Voltage Regulator, Fixed Output 1.5V, SOT-23-5/SC-70-5/SOT-353
pins: 1 IN, 2 GND, 3 EN, 4 NC, 5 OUT

## TLV70015_WSON6
designator *  value TLV70015_WSON6  Reference: U
200mA Low Dropout Voltage Regulator, Fixed Output 1.5V, WSON6; ki_keywords: 200mA LDO Regulator Fixed Positive; ki_fp_filters: WSON*; Footprint: Package_SON:WSON-6_1.5x1.5mm_P0.5mm; Datasheet: http://www.ti.com/lit/ds/symlink/tlv700.pdf; Description_: 200mA Low Dropout Voltage Regulator, Fixed Output 1.5V, WSON6
pins: 1 IN, 2 GND, 3 OUT, 4 NC, 5 NC, 6 EN

## TLV70018_SOT23-5
designator *  value TLV70018_SOT23-5  Reference: U
200mA Low Dropout Voltage Regulator, Fixed Output 1.8V, SOT-23-5; ki_keywords: 200mA LDO Regulator Fixed Positive; ki_fp_filters: SOT?23*; Footprint: Package_TO_SOT_SMD:SOT-23-5; Datasheet: http://www.ti.com/lit/ds/symlink/tlv700.pdf; Description_: 200mA Low Dropout Voltage Regulator, Fixed Output 1.8V, SOT-23-5
pins: 1 IN, 2 GND, 3 EN, 4 NC, 5 OUT

## TLV70018_SOT353
designator *  value TLV70018_SOT353  Reference: U
200mA Low Dropout Voltage Regulator, Fixed Output 1.8V, SC70-5; ki_keywords: 200mA LDO Regulator Fixed Positive; ki_fp_filters: SOT*353*; Footprint: Package_TO_SOT_SMD:SOT-353_SC-70-5; Datasheet: http://www.ti.com/lit/ds/symlink/tlv700.pdf; Description_: 200mA Low Dropout Voltage Regulator, Fixed Output 1.8V, SC70-5
pins: 1 IN, 2 GND, 3 EN, 4 NC, 5 OUT

## TLV70018_WSON6
designator *  value TLV70018_WSON6  Reference: U
200mA Low Dropout Voltage Regulator, Fixed Output 1.8V, WSON6; ki_keywords: 200mA LDO Regulator Fixed Positive; ki_fp_filters: WSON*; Footprint: Package_SON:WSON-6_1.5x1.5mm_P0.5mm; Datasheet: http://www.ti.com/lit/ds/symlink/tlv700.pdf; Description_: 200mA Low Dropout Voltage Regulator, Fixed Output 1.8V, WSON6
pins: 1 IN, 2 GND, 3 OUT, 4 NC, 5 NC, 6 EN

## TLV70019_SOT23-5
designator *  value TLV70019_SOT23-5  Reference: U
200mA Low Dropout Voltage Regulator, Fixed Output 1.9V, SOT-23-5; ki_keywords: 200mA LDO Regulator Fixed Positive; ki_fp_filters: SOT?23*; Footprint: Package_TO_SOT_SMD:SOT-23-5; Datasheet: http://www.ti.com/lit/ds/symlink/tlv700.pdf; Description_: 200mA Low Dropout Voltage Regulator, Fixed Output 1.9V, SOT-23-5
pins: 1 IN, 2 GND, 3 EN, 4 NC, 5 OUT

## TLV70025_SOT23-5
designator *  value TLV70025_SOT23-5  Reference: U
200mA Low Dropout Voltage Regulator, Fixed Output 2.5V, SOT-23-5; ki_keywords: 200mA LDO Regulator Fixed Positive; ki_fp_filters: SOT?23*; Footprint: Package_TO_SOT_SMD:SOT-23-5; Datasheet: http://www.ti.com/lit/ds/symlink/tlv700.pdf; Description_: 200mA Low Dropout Voltage Regulator, Fixed Output 2.5V, SOT-23-5
pins: 1 IN, 2 GND, 3 EN, 4 NC, 5 OUT

## TLV70025_SOT353
designator *  value TLV70025_SOT353  Reference: U
200mA Low Dropout Voltage Regulator, Fixed Output 2.5V, SC70-5; ki_keywords: 200mA LDO Regulator Fixed Positive; ki_fp_filters: SOT*353*; Footprint: Package_TO_SOT_SMD:SOT-353_SC-70-5; Datasheet: http://www.ti.com/lit/ds/symlink/tlv700.pdf; Description_: 200mA Low Dropout Voltage Regulator, Fixed Output 2.5V, SC70-5
pins: 1 IN, 2 GND, 3 EN, 4 NC, 5 OUT

## TLV70025_WSON6
designator *  value TLV70025_WSON6  Reference: U
200mA Low Dropout Voltage Regulator, Fixed Output 2.5V, WSON6; ki_keywords: 200mA LDO Regulator Fixed Positive; ki_fp_filters: WSON*; Footprint: Package_SON:WSON-6_1.5x1.5mm_P0.5mm; Datasheet: http://www.ti.com/lit/ds/symlink/tlv700.pdf; Description_: 200mA Low Dropout Voltage Regulator, Fixed Output 2.5V, WSON6
pins: 1 IN, 2 GND, 3 OUT, 4 NC, 5 NC, 6 EN

## TLV70028_SOT353
designator *  value TLV70028_SOT353  Reference: U
200mA Low Dropout Voltage Regulator, Fixed Output 2.8V, SC70-5; ki_keywords: 200mA LDO Regulator Fixed Positive; ki_fp_filters: SOT*353*; Footprint: Package_TO_SOT_SMD:SOT-353_SC-70-5; Datasheet: http://www.ti.com/lit/ds/symlink/tlv700.pdf; Description_: 200mA Low Dropout Voltage Regulator, Fixed Output 2.8V, SC70-5
pins: 1 IN, 2 GND, 3 EN, 4 NC, 5 OUT

## TLV70028_WSON6
designator *  value TLV70028_WSON6  Reference: U
200mA Low Dropout Voltage Regulator, Fixed Output 2.8V, WSON6; ki_keywords: 200mA LDO Regulator Fixed Positive; ki_fp_filters: WSON*; Footprint: Package_SON:WSON-6_1.5x1.5mm_P0.5mm; Datasheet: http://www.ti.com/lit/ds/symlink/tlv700.pdf; Description_: 200mA Low Dropout Voltage Regulator, Fixed Output 2.8V, WSON6
pins: 1 IN, 2 GND, 3 OUT, 4 NC, 5 NC, 6 EN

## TLV70029_WSON6
designator *  value TLV70029_WSON6  Reference: U
200mA Low Dropout Voltage Regulator, Fixed Output 2.9V, WSON6; ki_keywords: 200mA LDO Regulator Fixed Positive; ki_fp_filters: WSON*; Footprint: Package_SON:WSON-6_1.5x1.5mm_P0.5mm; Datasheet: http://www.ti.com/lit/ds/symlink/tlv700.pdf; Description_: 200mA Low Dropout Voltage Regulator, Fixed Output 2.9V, WSON6
pins: 1 IN, 2 GND, 3 OUT, 4 NC, 5 NC, 6 EN

## TLV70030_SOT23-5
designator *  value TLV70030_SOT23-5  Reference: U
200mA Low Dropout Voltage Regulator, Fixed Output 3.0V, SOT-23-5; ki_keywords: 200mA LDO Regulator Fixed Positive; ki_fp_filters: SOT?23*; Footprint: Package_TO_SOT_SMD:SOT-23-5; Datasheet: http://www.ti.com/lit/ds/symlink/tlv700.pdf; Description_: 200mA Low Dropout Voltage Regulator, Fixed Output 3.0V, SOT-23-5
pins: 1 IN, 2 GND, 3 EN, 4 NC, 5 OUT

## TLV70030_SOT353
designator *  value TLV70030_SOT353  Reference: U
200mA Low Dropout Voltage Regulator, Fixed Output 3V, SC70-5; ki_keywords: 200mA LDO Regulator Fixed Positive; ki_fp_filters: SOT*353*; Footprint: Package_TO_SOT_SMD:SOT-353_SC-70-5; Datasheet: http://www.ti.com/lit/ds/symlink/tlv700.pdf; Description_: 200mA Low Dropout Voltage Regulator, Fixed Output 3V, SC70-5
pins: 1 IN, 2 GND, 3 EN, 4 NC, 5 OUT

## TLV70030_WSON6
designator *  value TLV70030_WSON6  Reference: U
200mA Low Dropout Voltage Regulator, Fixed Output 3V, WSON6; ki_keywords: 200mA LDO Regulator Fixed Positive; ki_fp_filters: WSON*; Footprint: Package_SON:WSON-6_1.5x1.5mm_P0.5mm; Datasheet: http://www.ti.com/lit/ds/symlink/tlv700.pdf; Description_: 200mA Low Dropout Voltage Regulator, Fixed Output 3V, WSON6
pins: 1 IN, 2 GND, 3 OUT, 4 NC, 5 NC, 6 EN

## TLV70031_WSON6
designator *  value TLV70031_WSON6  Reference: U
200mA Low Dropout Voltage Regulator, Fixed Output 3.1V, WSON6; ki_keywords: 200mA LDO Regulator Fixed Positive; ki_fp_filters: WSON*; Footprint: Package_SON:WSON-6_1.5x1.5mm_P0.5mm; Datasheet: http://www.ti.com/lit/ds/symlink/tlv700.pdf; Description_: 200mA Low Dropout Voltage Regulator, Fixed Output 3.1V, WSON6
pins: 1 IN, 2 GND, 3 OUT, 4 NC, 5 NC, 6 EN

## TLV70032_SOT23-5
designator *  value TLV70032_SOT23-5  Reference: U
200mA Low Dropout Voltage Regulator, Fixed Output 3.2V, SOT-23-5; ki_keywords: 200mA LDO Regulator Fixed Positive; ki_fp_filters: SOT?23*; Footprint: Package_TO_SOT_SMD:SOT-23-5; Datasheet: http://www.ti.com/lit/ds/symlink/tlv700.pdf; Description_: 200mA Low Dropout Voltage Regulator, Fixed Output 3.2V, SOT-23-5
pins: 1 IN, 2 GND, 3 EN, 4 NC, 5 OUT

## TLV70033_SOT23-5
designator *  value TLV70033_SOT23-5  Reference: U
200mA Low Dropout Voltage Regulator, Fixed Output 3.3V, SOT-23-5; ki_keywords: 200mA LDO Regulator Fixed Positive; ki_fp_filters: SOT?23*; Footprint: Package_TO_SOT_SMD:SOT-23-5; Datasheet: http://www.ti.com/lit/ds/symlink/tlv700.pdf; Description_: 200mA Low Dropout Voltage Regulator, Fixed Output 3.3V, SOT-23-5
pins: 1 IN, 2 GND, 3 EN, 4 NC, 5 OUT

## TLV70033_SOT353
designator *  value TLV70033_SOT353  Reference: U
200mA Low Dropout Voltage Regulator, Fixed Output 3.3V, SC70-5; ki_keywords: 200mA LDO Regulator Fixed Positive; ki_fp_filters: SOT*353*; Footprint: Package_TO_SOT_SMD:SOT-353_SC-70-5; Datasheet: http://www.ti.com/lit/ds/symlink/tlv700.pdf; Description_: 200mA Low Dropout Voltage Regulator, Fixed Output 3.3V, SC70-5
pins: 1 IN, 2 GND, 3 EN, 4 NC, 5 OUT

## TLV70033_WSON6
designator *  value TLV70033_WSON6  Reference: U
200mA Low Dropout Voltage Regulator, Fixed Output 3.3V, WSON6; ki_keywords: 200mA LDO Regulator Fixed Positive; ki_fp_filters: WSON*; Footprint: Package_SON:WSON-6_1.5x1.5mm_P0.5mm; Datasheet: http://www.ti.com/lit/ds/symlink/tlv700.pdf; Description_: 200mA Low Dropout Voltage Regulator, Fixed Output 3.3V, WSON6
pins: 1 IN, 2 GND, 3 OUT, 4 NC, 5 NC, 6 EN

## TLV70036_SOT23-5
designator *  value TLV70036_SOT23-5  Reference: U
200mA Low Dropout Voltage Regulator, Fixed Output 3.6V, SOT-23-5; ki_keywords: 200mA LDO Regulator Fixed Positive; ki_fp_filters: SOT?23*; Footprint: Package_TO_SOT_SMD:SOT-23-5; Datasheet: http://www.ti.com/lit/ds/symlink/tlv700.pdf; Description_: 200mA Low Dropout Voltage Regulator, Fixed Output 3.6V, SOT-23-5
pins: 1 IN, 2 GND, 3 EN, 4 NC, 5 OUT

## TLV70036_WSON6
designator *  value TLV70036_WSON6  Reference: U
200mA Low Dropout Voltage Regulator, Fixed Output 3.6V, WSON6; ki_keywords: 200mA LDO Regulator Fixed Positive; ki_fp_filters: WSON*; Footprint: Package_SON:WSON-6_1.5x1.5mm_P0.5mm; Datasheet: http://www.ti.com/lit/ds/symlink/tlv700.pdf; Description_: 200mA Low Dropout Voltage Regulator, Fixed Output 3.6V, WSON6
pins: 1 IN, 2 GND, 3 OUT, 4 NC, 5 NC, 6 EN

## TLV70212_SOT23-5
designator *  value TLV70212_SOT23-5  Reference: U
300mA Low Dropout Voltage Regulator, Fixed Output 1.2V, SOT-23-5; ki_keywords: 300mA LDO Regulator Fixed Positive; ki_fp_filters: SOT?23*; Footprint: Package_TO_SOT_SMD:SOT-23-5; Datasheet: http://www.ti.com/lit/ds/symlink/tlv702.pdf; Description_: 300mA Low Dropout Voltage Regulator, Fixed Output 1.2V, SOT-23-5
pins: 1 IN, 2 GND, 3 EN, 4 NC, 5 OUT

## TLV70215_SOT23-5
designator *  value TLV70215_SOT23-5  Reference: U
300mA Low Dropout Voltage Regulator, Fixed Output 1.5V, SOT-23-5; ki_keywords: 300mA LDO Regulator Fixed Positive; ki_fp_filters: SOT?23*; Footprint: Package_TO_SOT_SMD:SOT-23-5; Datasheet: http://www.ti.com/lit/ds/symlink/tlv702.pdf; Description_: 300mA Low Dropout Voltage Regulator, Fixed Output 1.5V, SOT-23-5
pins: 1 IN, 2 GND, 3 EN, 4 NC, 5 OUT

## TLV70218_SOT23-5
designator *  value TLV70218_SOT23-5  Reference: U
300mA Low Dropout Voltage Regulator, Fixed Output 1.8V, SOT-23-5; ki_keywords: 300mA LDO Regulator Fixed Positive; ki_fp_filters: SOT?23*; Footprint: Package_TO_SOT_SMD:SOT-23-5; Datasheet: http://www.ti.com/lit/ds/symlink/tlv702.pdf; Description_: 300mA Low Dropout Voltage Regulator, Fixed Output 1.8V, SOT-23-5
pins: 1 IN, 2 GND, 3 EN, 4 NC, 5 OUT

## TLV70225_SOT23-5
designator *  value TLV70225_SOT23-5  Reference: U
300mA Low Dropout Voltage Regulator, Fixed Output 2.5V, SOT-23-5; ki_keywords: 300mA LDO Regulator Fixed Positive; ki_fp_filters: SOT?23*; Footprint: Package_TO_SOT_SMD:SOT-23-5; Datasheet: http://www.ti.com/lit/ds/symlink/tlv702.pdf; Description_: 300mA Low Dropout Voltage Regulator, Fixed Output 2.5V, SOT-23-5
pins: 1 IN, 2 GND, 3 EN, 4 NC, 5 OUT

## TLV70225_WSON6
designator *  value TLV70225_WSON6  Reference: U
300mA Low Dropout Voltage Regulator, Fixed Output 2.5V, WSON6; ki_keywords: 300mA LDO Regulator Fixed Positive; ki_fp_filters: WSON*; Footprint: Package_SON:WSON-6_1.5x1.5mm_P0.5mm; Datasheet: http://www.ti.com/lit/ds/symlink/tlv702.pdf; Description_: 300mA Low Dropout Voltage Regulator, Fixed Output 2.5V, WSON6
pins: 1 IN, 2 GND, 3 OUT, 4 NC, 5 NC, 6 EN

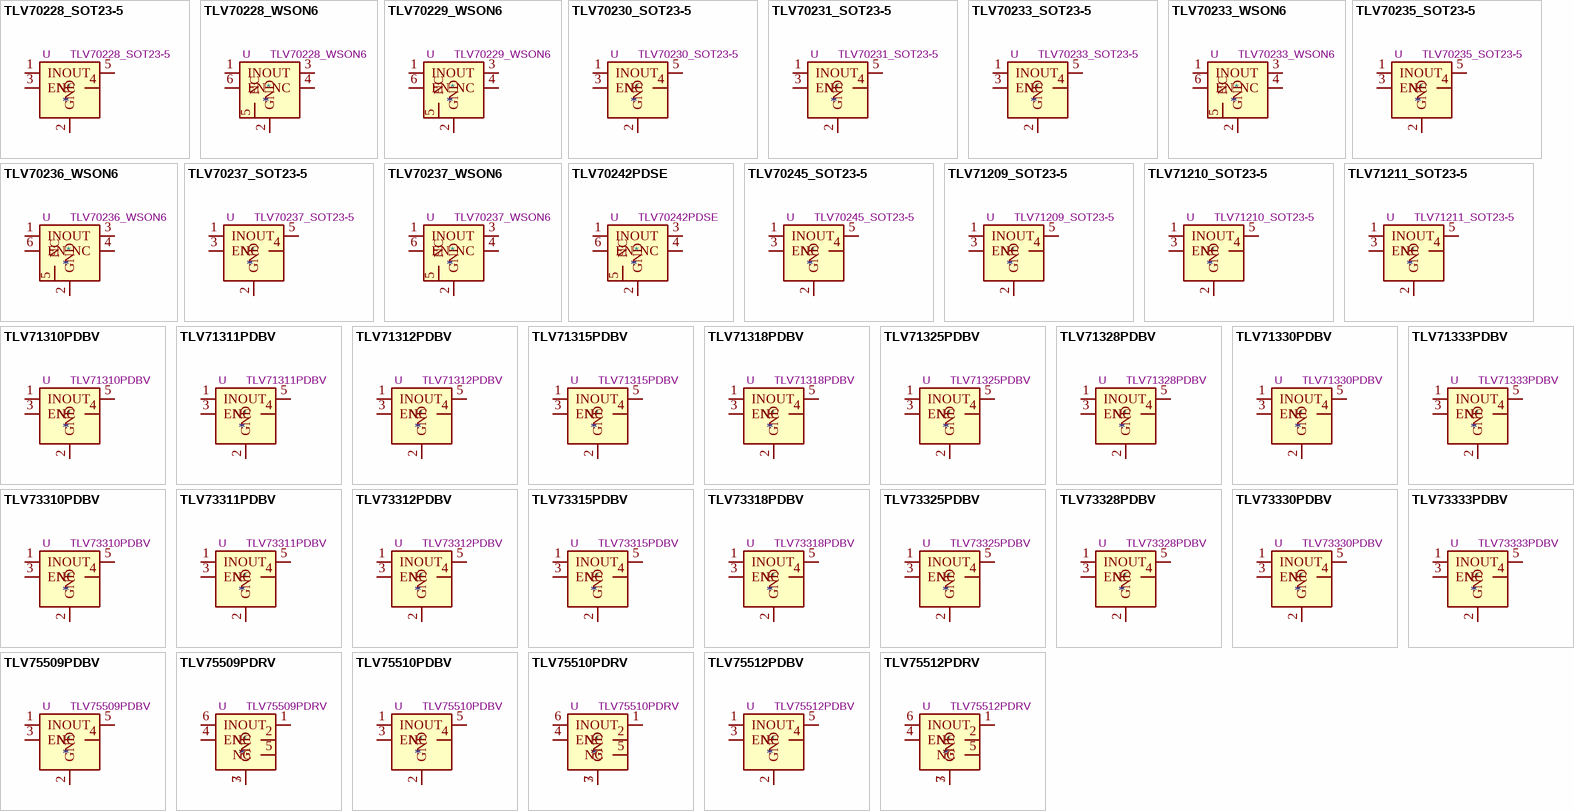
[diagram p34: symbols TLV70228_SOT23-5 to TLV75512PDRV]

## TLV70228_SOT23-5
designator *  value TLV70228_SOT23-5  Reference: U
300mA Low Dropout Voltage Regulator, Fixed Output 2.8V, SOT-23-5; ki_keywords: 300mA LDO Regulator Fixed Positive; ki_fp_filters: SOT?23*; Footprint: Package_TO_SOT_SMD:SOT-23-5; Datasheet: http://www.ti.com/lit/ds/symlink/tlv702.pdf; Description_: 300mA Low Dropout Voltage Regulator, Fixed Output 2.8V, SOT-23-5
pins: 1 IN, 2 GND, 3 EN, 4 NC, 5 OUT

## TLV70228_WSON6
designator *  value TLV70228_WSON6  Reference: U
300mA Low Dropout Voltage Regulator, Fixed Output 2.8V, WSON6; ki_keywords: 300mA LDO Regulator Fixed Positive; ki_fp_filters: WSON*; Footprint: Package_SON:WSON-6_1.5x1.5mm_P0.5mm; Datasheet: http://www.ti.com/lit/ds/symlink/tlv702.pdf; Description_: 300mA Low Dropout Voltage Regulator, Fixed Output 2.8V, WSON6
pins: 1 IN, 2 GND, 3 OUT, 4 NC, 5 NC, 6 EN

## TLV70229_WSON6
designator *  value TLV70229_WSON6  Reference: U
300mA Low Dropout Voltage Regulator, Fixed Output 2.9V, WSON6; ki_keywords: 300mA LDO Regulator Fixed Positive; ki_fp_filters: WSON*; Footprint: Package_SON:WSON-6_1.5x1.5mm_P0.5mm; Datasheet: http://www.ti.com/lit/ds/symlink/tlv702.pdf; Description_: 300mA Low Dropout Voltage Regulator, Fixed Output 2.9V, WSON6
pins: 1 IN, 2 GND, 3 OUT, 4 NC, 5 NC, 6 EN

## TLV70230_SOT23-5
designator *  value TLV70230_SOT23-5  Reference: U
300mA Low Dropout Voltage Regulator, Fixed Output 3V, SOT-23-5; ki_keywords: 300mA LDO Regulator Fixed Positive; ki_fp_filters: SOT?23*; Footprint: Package_TO_SOT_SMD:SOT-23-5; Datasheet: http://www.ti.com/lit/ds/symlink/tlv702.pdf; Description_: 300mA Low Dropout Voltage Regulator, Fixed Output 3V, SOT-23-5
pins: 1 IN, 2 GND, 3 EN, 4 NC, 5 OUT

## TLV70231_SOT23-5
designator *  value TLV70231_SOT23-5  Reference: U
300mA Low Dropout Voltage Regulator, Fixed Output 3.1V, SOT-23-5; ki_keywords: 300mA LDO Regulator Fixed Positive; ki_fp_filters: SOT?23*; Footprint: Package_TO_SOT_SMD:SOT-23-5; Datasheet: http://www.ti.com/lit/ds/symlink/tlv702.pdf; Description_: 300mA Low Dropout Voltage Regulator, Fixed Output 3.1V, SOT-23-5
pins: 1 IN, 2 GND, 3 EN, 4 NC, 5 OUT

## TLV70233_SOT23-5
designator *  value TLV70233_SOT23-5  Reference: U
300mA Low Dropout Voltage Regulator, Fixed Output 3.3V, SOT-23-5; ki_keywords: 300mA LDO Regulator Fixed Positive; ki_fp_filters: SOT?23*; Footprint: Package_TO_SOT_SMD:SOT-23-5; Datasheet: http://www.ti.com/lit/ds/symlink/tlv702.pdf; Description_: 300mA Low Dropout Voltage Regulator, Fixed Output 3.3V, SOT-23-5
pins: 1 IN, 2 GND, 3 EN, 4 NC, 5 OUT

## TLV70233_WSON6
designator *  value TLV70233_WSON6  Reference: U
300mA Low Dropout Voltage Regulator, Fixed Output 3.3V, WSON6; ki_keywords: 300mA LDO Regulator Fixed Positive; ki_fp_filters: WSON*; Footprint: Package_SON:WSON-6_1.5x1.5mm_P0.5mm; Datasheet: http://www.ti.com/lit/ds/symlink/tlv702.pdf; Description_: 300mA Low Dropout Voltage Regulator, Fixed Output 3.3V, WSON6
pins: 1 IN, 2 GND, 3 OUT, 4 NC, 5 NC, 6 EN

## TLV70235_SOT23-5
designator *  value TLV70235_SOT23-5  Reference: U
300mA Low Dropout Voltage Regulator, Fixed Output 3.5V, SOT-23-5; ki_keywords: 300mA LDO Regulator Fixed Positive; ki_fp_filters: SOT?23*; Footprint: Package_TO_SOT_SMD:SOT-23-5; Datasheet: http://www.ti.com/lit/ds/symlink/tlv702.pdf; Description_: 300mA Low Dropout Voltage Regulator, Fixed Output 3.5V, SOT-23-5
pins: 1 IN, 2 GND, 3 EN, 4 NC, 5 OUT

## TLV70236_WSON6
designator *  value TLV70236_WSON6  Reference: U
300mA Low Dropout Voltage Regulator, Fixed Output 3.6V, WSON6; ki_keywords: 300mA LDO Regulator Fixed Positive; ki_fp_filters: WSON*; Footprint: Package_SON:WSON-6_1.5x1.5mm_P0.5mm; Datasheet: http://www.ti.com/lit/ds/symlink/tlv702.pdf; Description_: 300mA Low Dropout Voltage Regulator, Fixed Output 3.6V, WSON6
pins: 1 IN, 2 GND, 3 OUT, 4 NC, 5 NC, 6 EN

## TLV70237_SOT23-5
designator *  value TLV70237_SOT23-5  Reference: U
300mA Low Dropout Voltage Regulator, Fixed Output 3.7V, SOT-23-5; ki_keywords: 300mA LDO Regulator Fixed Positive; ki_fp_filters: SOT?23*; Footprint: Package_TO_SOT_SMD:SOT-23-5; Datasheet: http://www.ti.com/lit/ds/symlink/tlv702.pdf; Description_: 300mA Low Dropout Voltage Regulator, Fixed Output 3.7V, SOT-23-5
pins: 1 IN, 2 GND, 3 EN, 4 NC, 5 OUT

## TLV70237_WSON6
designator *  value TLV70237_WSON6  Reference: U
300mA Low Dropout Voltage Regulator, Fixed Output 3.7V, WSON6; ki_keywords: 300mA LDO Regulator Fixed Positive; ki_fp_filters: WSON*; Footprint: Package_SON:WSON-6_1.5x1.5mm_P0.5mm; Datasheet: http://www.ti.com/lit/ds/symlink/tlv702.pdf; Description_: 300mA Low Dropout Voltage Regulator, Fixed Output 3.7V, WSON6
pins: 1 IN, 2 GND, 3 OUT, 4 NC, 5 NC, 6 EN

## TLV70242PDSE
designator *  value TLV70242PDSE  Reference: U
300mA Low Dropout Voltage Regulator, Fixed Output 4.2V, WSON6; ki_keywords: 300mA LDO Regulator Fixed Positive; ki_fp_filters: WSON*; Footprint: Package_SON:WSON-6_1.5x1.5mm_P0.5mm; Datasheet: http://www.ti.com/lit/ds/symlink/tlv702.pdf; Description_: 300mA Low Dropout Voltage Regulator, Fixed Output 4.2V, WSON6
pins: 1 IN, 2 GND, 3 OUT, 4 NC, 5 NC, 6 EN

## TLV70245_SOT23-5
designator *  value TLV70245_SOT23-5  Reference: U
300mA Low Dropout Voltage Regulator, Fixed Output 4.5V, SOT-23-5; ki_keywords: 300mA LDO Regulator Fixed Positive; ki_fp_filters: SOT?23*; Footprint: Package_TO_SOT_SMD:SOT-23-5; Datasheet: http://www.ti.com/lit/ds/symlink/tlv702.pdf; Description_: 300mA Low Dropout Voltage Regulator, Fixed Output 4.5V, SOT-23-5
pins: 1 IN, 2 GND, 3 EN, 4 NC, 5 OUT

## TLV71209_SOT23-5
designator *  value TLV71209_SOT23-5  Reference: U
300mA Low Dropout Voltage Regulator, Fixed Output 0.9V, SOT-23-5; ki_keywords: LDO Regulator Fixed Positive; ki_fp_filters: SOT?23*; Footprint: Package_TO_SOT_SMD:SOT-23-5; Datasheet: http://www.ti.com/lit/ds/symlink/tlv712.pdf; Description_: 300mA Low Dropout Voltage Regulator, Fixed Output 0.9V, SOT-23-5
pins: 1 IN, 2 GND, 3 EN, 4 NC, 5 OUT

## TLV71210_SOT23-5
designator *  value TLV71210_SOT23-5  Reference: U
300mA Low Dropout Voltage Regulator, Fixed Output 1.0V, SOT-23-5; ki_keywords: 300mA LDO Regulator Fixed Positive; ki_fp_filters: SOT?23*; Footprint: Package_TO_SOT_SMD:SOT-23-5; Datasheet: http://www.ti.com/lit/ds/symlink/tlv712.pdf; Description_: 300mA Low Dropout Voltage Regulator, Fixed Output 1.0V, SOT-23-5
pins: 1 IN, 2 GND, 3 EN, 4 NC, 5 OUT

## TLV71211_SOT23-5
designator *  value TLV71211_SOT23-5  Reference: U
300mA Low Dropout Voltage Regulator, Fixed Output 1.1V, SOT-23-5; ki_keywords: 300mA LDO Regulator Fixed Positive; ki_fp_filters: SOT?23*; Footprint: Package_TO_SOT_SMD:SOT-23-5; Datasheet: http://www.ti.com/lit/ds/symlink/tlv712.pdf; Description_: 300mA Low Dropout Voltage Regulator, Fixed Output 1.1V, SOT-23-5
pins: 1 IN, 2 GND, 3 EN, 4 NC, 5 OUT

## TLV71310PDBV
designator *  value TLV71310PDBV  Reference: U
150mA Low Dropout Voltage Regulator, Fixed Output 1.0V, SOT-23-5; ki_keywords: LDO Regulator Fixed Positive; ki_fp_filters: SOT?23*; Footprint: Package_TO_SOT_SMD:SOT-23-5; Datasheet: http://www.ti.com/lit/ds/symlink/tlv713p.pdf; Description_: 150mA Low Dropout Voltage Regulator, Fixed Output 1.0V, SOT-23-5
pins: 1 IN, 2 GND, 3 EN, 4 NC, 5 OUT

## TLV71311PDBV
designator *  value TLV71311PDBV  Reference: U
150mA Low Dropout Voltage Regulator, Fixed Output 1.1V, SOT-23-5; ki_keywords: LDO Regulator Fixed Positive; ki_fp_filters: SOT?23*; Footprint: Package_TO_SOT_SMD:SOT-23-5; Datasheet: http://www.ti.com/lit/ds/symlink/tlv713p.pdf; Description_: 150mA Low Dropout Voltage Regulator, Fixed Output 1.1V, SOT-23-5
pins: 1 IN, 2 GND, 3 EN, 4 NC, 5 OUT